# EAGLE library part 1-776276-1 (library 1-776276-1)
CONN HEADER 8POS VERT GOLD BLK
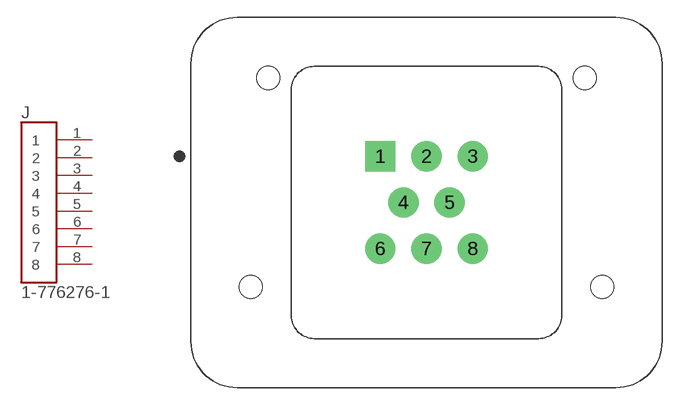
[diagram p0: symbol with the pads of TE_1-776276-1; footprint TE_1-776276-1]

Designator prefix J

## 1-776276-1 (MANUFACTURER: TE Connectivity; METADATA: Manufacturer recommendations; PARTREV: B9)  [TE_1-776276-1]
1  1  pas
2  2  pas
3  3  pas
4  4  pas
5  5  pas
6  6  pas
7  7  pas
8  8  pas

## Footprint TE_1-776276-1 (pad centres in mm)
drill 1.75 square: 1 -4,4
drill 1.75: 2 0,4; 3 4,4; 4 -2,0; 5 2,0; 6 -4,-4; 7 0,-4; 8 4,-4
hole 2 at -13.7,10.8
hole 2 at 13.7,10.8
hole 2 at -15.2,-7.3
hole 2 at 15.2,-7.3